# Altium footprint library CAP-TAN-B.PcbLib: 1 footprints
Each footprint in its own frame and in the unit in brackets; x right, y up, seen from the top. Pads: shape width x height; smd on the part's side, far side on the other; paste and mask are expansions set on the pad; w line width, h text height; cw(c..) or ccw(c..) is an arc to the next point about the centre after c.
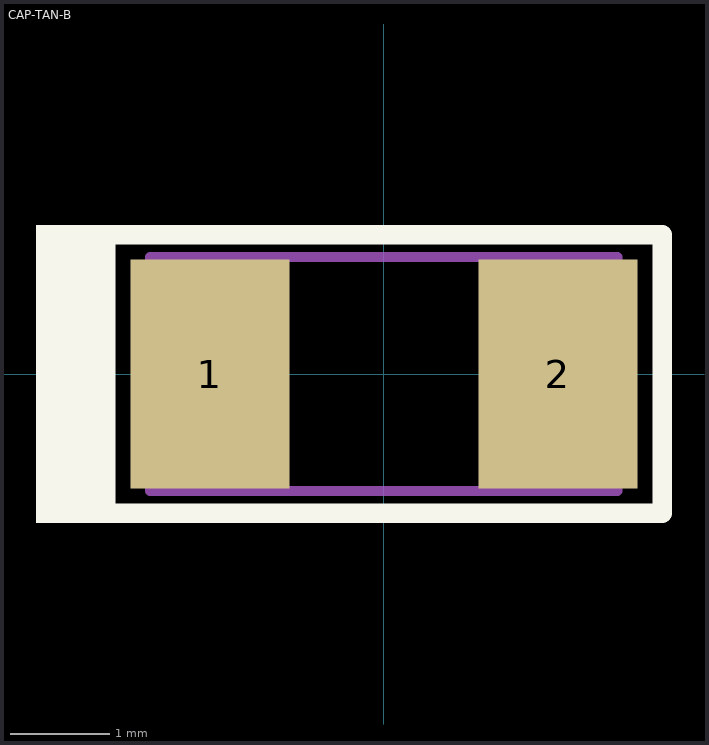
[diagram p0: the footprint, top view; thin cyan lines are the x and y axes]

## CAP-TAN-B [mm]
height 0.95
pads (2):
  rect 1.6x2.3 smd: 1(-1.75,0) 2(1.75,0)
Top Overlay:
  rectangle: -3.5,-1.5 -2.7,1.5
  lines w0.2: -2.8,-1.4 2.8,-1.4 2.8,1.4 -2.8,1.4 -2.8,-0.9 -2.8,-1.4
Top Assembly:
  lines w0.1: -2.35,-1.175 -2.35,1.175 2.35,1.175 2.35,-1.175 -2.35,-1.175
  text "'.Designator'" at -0.925,-0.325 h0.7
3D body "User Library-QT02752.STEP": height 1.9, standoff -0.01, extent -1.831,-1.4 1.832,1.4